# Altium schematic symbol library WE-CNSW.SchLib: 30 symbols
Pins are listed as number, name and electrical type; pins without a type are passive.

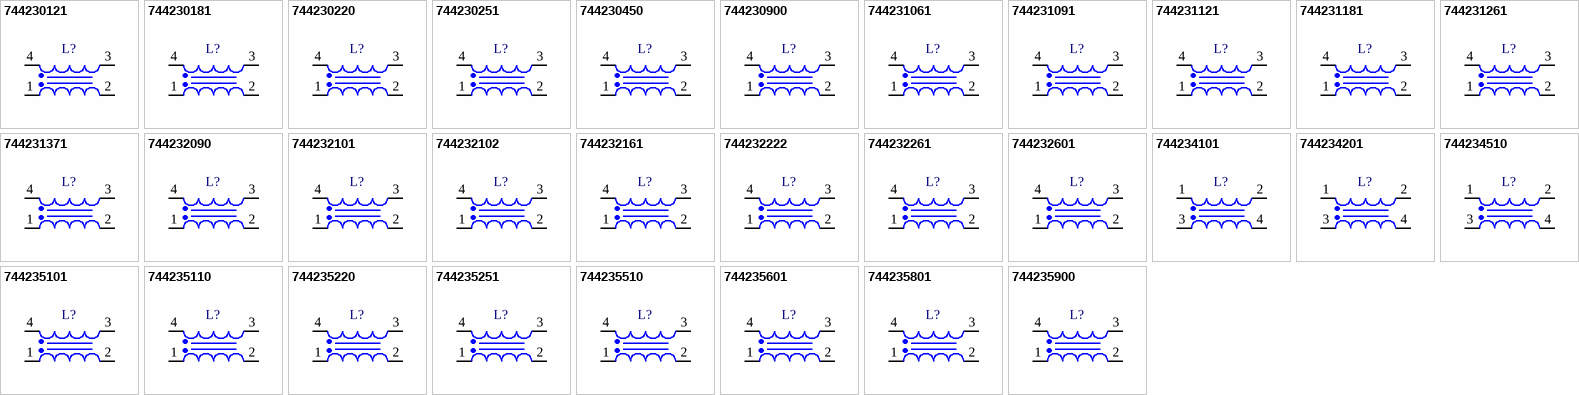
[diagram p0: symbols 744230121 to 744235900]

## 744230121
designator L?, comment 120ohm @100MHz  (value not drawn)
WE-CNSW SMT Common Mode Line Filter, SMT, size 0603, 120ohm @100MHz, 50V, 450mA; Manufacturer Part Number: 744230121; Manufacturer: Wurth Elektronik; Case/Size Code: 0603; DC Resistance Max: 0.175ohm; Inductance: 0.146uH; Insulation Test Voltage: 125VAC; Winding Style: bifilar; Category: Common Mode Chokes; Match Code: WE-CNSW; ComponentLink1Description: Website Link; ComponentLink1URL: https://www.we-online.com; ComponentLink2Description: Datasheet Link; ComponentLink2URL: https://www.we-online.com/components/products/datasheet/744230121; Mount: Surface Mount; Operating Temperature Min: -40degC; Operating Temperature Max: 125degC; Packaging: Tape and Reel; Length: 1.6mm; Width: 0.85mm; Height: 1.1mm; Impedance @100MHz: 120ohm; Rated Current: 450mA; Rated Voltage: 50V
footprint WE-CNSW_0603
simulation model 0603_744230121_120ohm
pins: 1, 2, 3, 4

## 744230181
designator L?, comment 180ohm @100MHz  (value not drawn)
WE-CNSW SMT Common Mode Line Filter, SMT, size 0603, 180ohm @100MHz, 50V, 400mA; Manufacturer Part Number: 744230181; Manufacturer: Wurth Elektronik; Case/Size Code: 0603; DC Resistance Max: 0.21ohm; Inductance: 0.22uH; Insulation Test Voltage: 125VAC; Winding Style: bifilar; Category: Common Mode Chokes; Match Code: WE-CNSW; ComponentLink1Description: Website Link; ComponentLink1URL: https://www.we-online.com; ComponentLink2Description: Datasheet Link; ComponentLink2URL: https://www.we-online.com/components/products/datasheet/744230181; Mount: Surface Mount; Operating Temperature Min: -40degC; Operating Temperature Max: 125degC; Packaging: Tape and Reel; Length: 1.6mm; Width: 0.85mm; Height: 1.1mm; Impedance @100MHz: 180ohm; Rated Current: 400mA; Rated Voltage: 50V
footprint WE-CNSW_0603
simulation model 0603_744230181_180ohm
pins: 1, 2, 3, 4

## 744230220
designator L?, comment 22ohm @100MHz  (value not drawn)
WE-CNSW SMT Common Mode Line Filter, SMT, size 0603, 22ohm @100MHz, 50V, 800mA; Manufacturer Part Number: 744230220; Manufacturer: Wurth Elektronik; Case/Size Code: 0603; DC Resistance Max: 0.08ohm; Inductance: 0.027uH; Insulation Test Voltage: 125VAC; Winding Style: bifilar; Category: Common Mode Chokes; Match Code: WE-CNSW; ComponentLink1Description: Website Link; ComponentLink1URL: https://www.we-online.com; ComponentLink2Description: Datasheet Link; ComponentLink2URL: https://www.we-online.com/components/products/datasheet/744230220; Mount: Surface Mount; Operating Temperature Min: -40degC; Operating Temperature Max: 125degC; Packaging: Tape and Reel; Length: 1.6mm; Width: 0.85mm; Height: 1.1mm; Impedance @100MHz: 22ohm; Rated Current: 800mA; Rated Voltage: 50V
footprint WE-CNSW_0603
simulation model 0603_744230220_22ohm
pins: 1, 2, 3, 4

## 744230251
designator L?, comment 250ohm @100MHz  (value not drawn)
WE-CNSW SMT Common Mode Line Filter, SMT, size 0603, 250ohm @100MHz, 50V, 350mA; Manufacturer Part Number: 744230251; Manufacturer: Wurth Elektronik; Case/Size Code: 0603; DC Resistance Max: 0.28ohm; Inductance: 0.279uH; Insulation Test Voltage: 125VAC; Winding Style: bifilar; Category: Common Mode Chokes; Match Code: WE-CNSW; ComponentLink1Description: Website Link; ComponentLink1URL: https://www.we-online.com; ComponentLink2Description: Datasheet Link; ComponentLink2URL: https://www.we-online.com/components/products/datasheet/744230251; Mount: Surface Mount; Operating Temperature Min: -40degC; Operating Temperature Max: 125degC; Packaging: Tape and Reel; Length: 1.6mm; Width: 0.85mm; Height: 1.1mm; Impedance @100MHz: 250ohm; Rated Current: 350mA; Rated Voltage: 50V
footprint WE-CNSW_0603
simulation model 0603_744230251_250ohm
pins: 1, 2, 3, 4

## 744230450
designator L?, comment 45ohm @100MHz  (value not drawn)
WE-CNSW SMT Common Mode Line Filter, SMT, size 0603, 45ohm @100MHz, 50V, 650mA; Manufacturer Part Number: 744230450; Manufacturer: Wurth Elektronik; Case/Size Code: 0603; DC Resistance Max: 0.11ohm; Inductance: 0.056uH; Insulation Test Voltage: 125VAC; Winding Style: bifilar; Category: Common Mode Chokes; Match Code: WE-CNSW; ComponentLink1Description: Website Link; ComponentLink1URL: https://www.we-online.com; ComponentLink2Description: Datasheet Link; ComponentLink2URL: https://www.we-online.com/components/products/datasheet/744230450; Mount: Surface Mount; Operating Temperature Min: -40degC; Operating Temperature Max: 125degC; Packaging: Tape and Reel; Length: 1.6mm; Width: 0.85mm; Height: 1.1mm; Impedance @100MHz: 45ohm; Rated Current: 650mA; Rated Voltage: 50V
footprint WE-CNSW_0603
simulation model 0603_744230450_45ohm
pins: 1, 2, 3, 4

## 744230900
designator L?, comment 90ohm @100MHz  (value not drawn)
WE-CNSW SMT Common Mode Line Filter, SMT, size 0603, 90ohm @100MHz, 50V, 550mA; Manufacturer Part Number: 744230900; Manufacturer: Wurth Elektronik; Case/Size Code: 0603; DC Resistance Max: 0.145ohm; Inductance: 0.134uH; Insulation Test Voltage: 125VAC; Winding Style: bifilar; Category: Common Mode Chokes; Match Code: WE-CNSW; ComponentLink1Description: Website Link; ComponentLink1URL: https://www.we-online.com; ComponentLink2Description: Datasheet Link; ComponentLink2URL: https://www.we-online.com/components/products/datasheet/744230900; Mount: Surface Mount; Operating Temperature Min: -40degC; Operating Temperature Max: 125degC; Packaging: Tape and Reel; Length: 1.6mm; Width: 0.85mm; Height: 1.1mm; Impedance @100MHz: 90ohm; Rated Current: 550mA; Rated Voltage: 50V
footprint WE-CNSW_0603
simulation model 0603_744230900_90ohm
pins: 1, 2, 3, 4

## 744231061
designator L?, comment 67ohm @100MHz  (value not drawn)
WE-CNSW SMT Common Mode Line Filter, SMT, size 0805, 67ohm @100MHz, 50V, 400mA; Manufacturer Part Number: 744231061; Manufacturer: Wurth Elektronik; Case/Size Code: 0805; DC Resistance Max: 0.25ohm; Inductance: 0.088uH; Insulation Test Voltage: 125VAC; Winding Style: bifilar; Category: Common Mode Chokes; Match Code: WE-CNSW; ComponentLink1Description: Website Link; ComponentLink1URL: https://www.we-online.com; ComponentLink2Description: Datasheet Link; ComponentLink2URL: https://www.we-online.com/components/products/datasheet/744231061; Mount: Surface Mount; Operating Temperature Min: -40degC; Operating Temperature Max: 125degC; Packaging: Tape and Reel; Length: 2mm; Width: 1.2mm; Height: 1.2mm; Impedance @100MHz: 67ohm; Rated Current: 400mA; Rated Voltage: 50V
footprint WE-CNSW_0805
simulation model 0805_744231061_67ohm
pins: 1, 2, 3, 4

## 744231091
designator L?, comment 90ohm @100MHz  (value not drawn)
WE-CNSW SMT Common Mode Line Filter, SMT, size 0805, 90ohm @100MHz, 50V, 370mA; Manufacturer Part Number: 744231091; Manufacturer: Wurth Elektronik; Case/Size Code: 0805; DC Resistance Max: 0.3ohm; Inductance: 0.131uH; Insulation Test Voltage: 125VAC; Winding Style: bifilar; Category: Common Mode Chokes; Match Code: WE-CNSW; ComponentLink1Description: Website Link; ComponentLink1URL: https://www.we-online.com; ComponentLink2Description: Datasheet Link; ComponentLink2URL: https://www.we-online.com/components/products/datasheet/744231091; Mount: Surface Mount; Operating Temperature Min: -40degC; Operating Temperature Max: 125degC; Packaging: Tape and Reel; Length: 2mm; Width: 1.2mm; Height: 1.2mm; Impedance @100MHz: 90ohm; Rated Current: 370mA; Rated Voltage: 50V
footprint WE-CNSW_0805
simulation model 0805_744231091_90ohm
pins: 1, 2, 3, 4

## 744231121
designator L?, comment 120ohm @100MHz  (value not drawn)
WE-CNSW SMT Common Mode Line Filter, SMT, size 0805, 120ohm @100MHz, 50V, 370mA; Manufacturer Part Number: 744231121; Manufacturer: Wurth Elektronik; Case/Size Code: 0805; DC Resistance Max: 0.3ohm; Inductance: 0.166uH; Insulation Test Voltage: 125VAC; Winding Style: bifilar; Category: Common Mode Chokes; Match Code: WE-CNSW; ComponentLink1Description: Website Link; ComponentLink1URL: https://www.we-online.com; ComponentLink2Description: Datasheet Link; ComponentLink2URL: https://www.we-online.com/components/products/datasheet/744231121; Mount: Surface Mount; Operating Temperature Min: -40degC; Operating Temperature Max: 125degC; Packaging: Tape and Reel; Length: 2mm; Width: 1.2mm; Height: 1.2mm; Impedance @100MHz: 120ohm; Rated Current: 370mA; Rated Voltage: 50V
footprint WE-CNSW_0805
simulation model 0805_744231121_120ohm
pins: 1, 2, 3, 4

## 744231181
designator L?, comment 180ohm @100MHz  (value not drawn)
WE-CNSW SMT Common Mode Line Filter, SMT, size 0805, 180ohm @100MHz, 50V, 330mA; Manufacturer Part Number: 744231181; Manufacturer: Wurth Elektronik; Case/Size Code: 0805; DC Resistance Max: 0.35ohm; Inductance: 0.252uH; Insulation Test Voltage: 125VAC; Winding Style: bifilar; Category: Common Mode Chokes; Match Code: WE-CNSW; ComponentLink1Description: Website Link; ComponentLink1URL: https://www.we-online.com; ComponentLink2Description: Datasheet Link; ComponentLink2URL: https://www.we-online.com/components/products/datasheet/744231181; Mount: Surface Mount; Operating Temperature Min: -40degC; Operating Temperature Max: 125degC; Packaging: Tape and Reel; Length: 2mm; Width: 1.2mm; Height: 1.2mm; Impedance @100MHz: 180ohm; Rated Current: 330mA; Rated Voltage: 50V
footprint WE-CNSW_0805
simulation model 0805_744231181_180ohm
pins: 1, 2, 3, 4

## 744231261
designator L?, comment 260ohm @100MHz  (value not drawn)
WE-CNSW SMT Common Mode Line Filter, SMT, size 0805, 260ohm @100MHz, 50V, 300mA; Manufacturer Part Number: 744231261; Manufacturer: Wurth Elektronik; Case/Size Code: 0805; DC Resistance Max: 0.4ohm; Inductance: 0.367uH; Insulation Test Voltage: 125VAC; Winding Style: bifilar; Category: Common Mode Chokes; Match Code: WE-CNSW; ComponentLink1Description: Website Link; ComponentLink1URL: https://www.we-online.com; ComponentLink2Description: Datasheet Link; ComponentLink2URL: https://www.we-online.com/components/products/datasheet/744231261; Mount: Surface Mount; Operating Temperature Min: -40degC; Operating Temperature Max: 125degC; Packaging: Tape and Reel; Length: 2mm; Width: 1.2mm; Height: 1.2mm; Impedance @100MHz: 260ohm; Rated Current: 300mA; Rated Voltage: 50V
footprint WE-CNSW_0805
simulation model 0805_744231261_260ohm
pins: 1, 2, 3, 4

## 744231371
designator L?, comment 370ohm @100MHz  (value not drawn)
WE-CNSW SMT Common Mode Line Filter, SMT, size 0805, 370ohm @100MHz, 50V, 280mA; Manufacturer Part Number: 744231371; Manufacturer: Wurth Elektronik; Case/Size Code: 0805; DC Resistance Max: 0.45ohm; Inductance: 0.478uH; Insulation Test Voltage: 125VAC; Winding Style: bifilar; Category: Common Mode Chokes; Match Code: WE-CNSW; ComponentLink1Description: Website Link; ComponentLink1URL: https://www.we-online.com; ComponentLink2Description: Datasheet Link; ComponentLink2URL: https://www.we-online.com/components/products/datasheet/744231371; Mount: Surface Mount; Operating Temperature Min: -40degC; Operating Temperature Max: 125degC; Packaging: Tape and Reel; Length: 2mm; Width: 1.2mm; Height: 1.2mm; Impedance @100MHz: 370ohm; Rated Current: 280mA; Rated Voltage: 50V
footprint WE-CNSW_0805
simulation model 0805_744231371_370ohm
pins: 1, 2, 3, 4

## 744232090
designator L?, comment 90ohm @100MHz  (value not drawn)
WE-CNSW SMT Common Mode Line Filter, SMT, size 1206, 90ohm @100MHz, 50V, 370mA; Manufacturer Part Number: 744232090; Manufacturer: Wurth Elektronik; Case/Size Code: 1206; DC Resistance Max: 0.3ohm; Inductance: 0.111uH; Insulation Test Voltage: 125VAC; Winding Style: bifilar; Category: Common Mode Chokes; Match Code: WE-CNSW; ComponentLink1Description: Website Link; ComponentLink1URL: https://www.we-online.com; ComponentLink2Description: Datasheet Link; ComponentLink2URL: https://www.we-online.com/components/products/datasheet/744232090; Mount: Surface Mount; Operating Temperature Min: -40degC; Operating Temperature Max: 125degC; Packaging: Tape and Reel; Length: 3.2mm; Width: 1.6mm; Height: 1.8mm; Impedance @100MHz: 90ohm; Rated Current: 370mA; Rated Voltage: 50V
footprint WE-CNSW_1206
simulation model 1206_744232090_90ohm
pins: 1, 2, 3, 4

## 744232101
designator L?, comment 6000ohm @10MHz  (value not drawn)
WE-CNSW SMT Common Mode Line Filter, SMT, size 1206, 6000ohm @10MHz, 50V, 90mA; Manufacturer Part Number: 744232101; Manufacturer: Wurth Elektronik; Case/Size Code: 1206; DC Resistance Max: 5.5ohm; Inductance: 105.3uH; Insulation Test Voltage: 125VAC; Winding Style: bifilar; Category: Common Mode Chokes; Match Code: WE-CNSW; ComponentLink1Description: Website Link; ComponentLink1URL: https://www.we-online.com; ComponentLink2Description: Datasheet Link; ComponentLink2URL: https://www.we-online.com/components/products/datasheet/744232101; Mount: Surface Mount; Operating Temperature Min: -40degC; Operating Temperature Max: 125degC; Packaging: Tape and Reel; Length: 3.2mm; Width: 1.6mm; Height: 1.8mm; Impedance @10MHz: 6000ohm; Rated Current: 90mA; Rated Voltage: 50V
footprint WE-CNSW_1206
simulation model 1206_744232101_6000ohm
pins: 1, 2, 3, 4

## 744232102
designator L?, comment 1000ohm @100MHz  (value not drawn)
WE-CNSW SMT Common Mode Line Filter, SMT, size 1206, 1000ohm @100MHz, 50V, 230mA; Manufacturer Part Number: 744232102; Manufacturer: Wurth Elektronik; Case/Size Code: 1206; DC Resistance Max: 1ohm; Inductance: 1.263uH; Insulation Test Voltage: 125VAC; Winding Style: bifilar; Category: Common Mode Chokes; Match Code: WE-CNSW; ComponentLink1Description: Website Link; ComponentLink1URL: https://www.we-online.com; ComponentLink2Description: Datasheet Link; ComponentLink2URL: https://www.we-online.com/components/products/datasheet/744232102; Mount: Surface Mount; Operating Temperature Min: -40degC; Operating Temperature Max: 125degC; Packaging: Tape and Reel; Length: 3.2mm; Width: 1.6mm; Height: 1.8mm; Impedance @100MHz: 1000ohm; Rated Current: 230mA; Rated Voltage: 50V
footprint WE-CNSW_1206
simulation model 1206_744232102_1000ohm
pins: 1, 2, 3, 4

## 744232161
designator L?, comment 160ohm @100MHz  (value not drawn)
WE-CNSW SMT Common Mode Line Filter, SMT, size 1206, 160ohm @100MHz, 50V, 340mA; Manufacturer Part Number: 744232161; Manufacturer: Wurth Elektronik; Case/Size Code: 1206; DC Resistance Max: 0.4ohm; Inductance: 0.196uH; Insulation Test Voltage: 125VAC; Winding Style: bifilar; Category: Common Mode Chokes; Match Code: WE-CNSW; ComponentLink1Description: Website Link; ComponentLink1URL: https://www.we-online.com; ComponentLink2Description: Datasheet Link; ComponentLink2URL: https://www.we-online.com/components/products/datasheet/744232161; Mount: Surface Mount; Operating Temperature Min: -40degC; Operating Temperature Max: 125degC; Packaging: Tape and Reel; Length: 3.2mm; Width: 1.6mm; Height: 1.8mm; Impedance @100MHz: 160ohm; Rated Current: 340mA; Rated Voltage: 50V
footprint WE-CNSW_1206
simulation model 1206_744232161_160ohm
pins: 1, 2, 3, 4

## 744232222
designator L?, comment 2200ohm @100MHz  (value not drawn)
WE-CNSW SMT Common Mode Line Filter, SMT, size 1206, 2200ohm @100MHz, 50V, 200mA; Manufacturer Part Number: 744232222; Manufacturer: Wurth Elektronik; Case/Size Code: 1206; DC Resistance Max: 1.2ohm; Inductance: 2.578uH; Insulation Test Voltage: 125VAC; Winding Style: bifilar; Category: Common Mode Chokes; Match Code: WE-CNSW; ComponentLink1Description: Website Link; ComponentLink1URL: https://www.we-online.com; ComponentLink2Description: Datasheet Link; ComponentLink2URL: https://www.we-online.com/components/products/datasheet/744232222; Mount: Surface Mount; Operating Temperature Min: -40degC; Operating Temperature Max: 125degC; Packaging: Tape and Reel; Length: 3.2mm; Width: 1.6mm; Height: 1.8mm; Impedance @100MHz: 2200ohm; Rated Current: 200mA; Rated Voltage: 50V
footprint WE-CNSW_1206
simulation model 1206_744232222_2200ohm
pins: 1, 2, 3, 4

## 744232261
designator L?, comment 260ohm @100MHz  (value not drawn)
WE-CNSW SMT Common Mode Line Filter, SMT, size 1206, 260ohm @100MHz, 50V, 310mA; Manufacturer Part Number: 744232261; Manufacturer: Wurth Elektronik; Case/Size Code: 1206; DC Resistance Max: 0.5ohm; Inductance: 0.304uH; Insulation Test Voltage: 125VAC; Winding Style: bifilar; Category: Common Mode Chokes; Match Code: WE-CNSW; ComponentLink1Description: Website Link; ComponentLink1URL: https://www.we-online.com; ComponentLink2Description: Datasheet Link; ComponentLink2URL: https://www.we-online.com/components/products/datasheet/744232261; Mount: Surface Mount; Operating Temperature Min: -40degC; Operating Temperature Max: 125degC; Packaging: Tape and Reel; Length: 3.2mm; Width: 1.6mm; Height: 1.8mm; Impedance @100MHz: 260ohm; Rated Current: 310mA; Rated Voltage: 50V
footprint WE-CNSW_1206
simulation model 1206_744232261_260ohm
pins: 1, 2, 3, 4

## 744232601
designator L?, comment 600ohm @100MHz  (value not drawn)
WE-CNSW SMT Common Mode Line Filter, SMT, size 1206, 600ohm @100MHz, 50V, 260mA; Manufacturer Part Number: 744232601; Manufacturer: Wurth Elektronik; Case/Size Code: 1206; DC Resistance Max: 0.8ohm; Inductance: 0.3621uH; Insulation Test Voltage: 125VAC; Winding Style: bifilar; Category: Common Mode Chokes; Match Code: WE-CNSW; ComponentLink1Description: Website Link; ComponentLink1URL: https://www.we-online.com; ComponentLink2Description: Datasheet Link; ComponentLink2URL: https://www.we-online.com/components/products/datasheet/744232601; Mount: Surface Mount; Operating Temperature Min: -40degC; Operating Temperature Max: 125degC; Packaging: Tape and Reel; Length: 3.2mm; Width: 1.6mm; Height: 1.8mm; Impedance @100MHz: 600ohm; Rated Current: 260mA; Rated Voltage: 50V
footprint WE-CNSW_1206
simulation model 1206_744232601_600ohm
pins: 1, 2, 3, 4

## 744234101
designator L?, comment 5500ohm @10MHz  (value not drawn)
WE-CNSW SMT Common Mode Line Filter, SMT, size 1210, 5500ohm @10MHz, 50V, 200mA; Manufacturer Part Number: 744234101; Manufacturer: Wurth Elektronik; Case/Size Code: 1210; DC Resistance Max: 3ohm; Inductance: 100uH; Insulation Test Voltage: 125VAC; Winding Style: bifilar; Category: Common Mode Chokes; Match Code: WE-CNSW; ComponentLink1Description: Website Link; ComponentLink1URL: https://www.we-online.com; ComponentLink2Description: Datasheet Link; ComponentLink2URL: https://www.we-online.com/components/products/datasheet/744234101; Mount: Surface Mount; Operating Temperature Min: -40degC; Operating Temperature Max: 125degC; Packaging: Tape and Reel; Length: 3.2mm; Width: 2.5mm; Height: 2.4mm; Impedance @10MHz: 5500ohm; Rated Current: 200mA; Rated Voltage: 50V
footprint WE-CNSW_1210
simulation model 1210_744234101_5500ohm
pins: 1, 2, 3, 4

## 744234201
designator L?, comment 10000ohm @10MHz  (value not drawn)
WE-CNSW SMT Common Mode Line Filter, SMT, size 1210, 10000ohm @10MHz, 50V, 100mA; Manufacturer Part Number: 744234201; Manufacturer: Wurth Elektronik; Case/Size Code: 1210; DC Resistance Max: 5.5ohm; Inductance: 200uH; Insulation Test Voltage: 125VAC; Category: Common Mode Chokes; Match Code: WE-CNSW; ComponentLink1Description: Website Link; ComponentLink1URL: https://www.we-online.com; ComponentLink2Description: Datasheet Link; ComponentLink2URL: https://www.we-online.com/components/products/datasheet/744234201; Mount: Surface Mount; Operating Temperature Min: -40degC; Operating Temperature Max: 125degC; Packaging: Tape and Reel; Length: 3.2mm; Width: 2.5mm; Height: 2.4mm; Impedance @10MHz: 10000ohm; Impedance @100MHz: 10000ohm; Rated Current: 100mA; Rated Voltage: 50V
footprint WE-CNSW_1210
simulation model 1210_744234201_10000ohm
pins: 1, 2, 3, 4

## 744234510
designator L?, comment 2800ohm @10MHz  (value not drawn)
WE-CNSW SMT Common Mode Line Filter, SMT, size 1210, 2800ohm @10MHz, 50V, 400mA; Manufacturer Part Number: 744234510; Manufacturer: Wurth Elektronik; Case/Size Code: 1210; DC Resistance Max: 1.1ohm; Inductance: 51uH; Insulation Test Voltage: 125VAC; Winding Style: bifilar; Category: Common Mode Chokes; Match Code: WE-CNSW; ComponentLink1Description: Website Link; ComponentLink1URL: https://www.we-online.com; ComponentLink2Description: Datasheet Link; ComponentLink2URL: https://www.we-online.com/components/products/datasheet/744234510; Mount: Surface Mount; Operating Temperature Min: -40degC; Operating Temperature Max: 125degC; Packaging: Tape and Reel; Length: 3.2mm; Width: 2.5mm; Height: 2.4mm; Impedance @10MHz: 2800ohm; Rated Current: 400mA; Rated Voltage: 50V
footprint WE-CNSW_1210
simulation model 1210_744234510_2800ohm
pins: 1, 2, 3, 4

## 744235101
designator L?, comment 5000ohm @10MHz  (value not drawn)
WE-CNSW SMT Common Mode Line Filter, SMT, size 1812, 5000ohm @10MHz, 60V, 150mA; Manufacturer Part Number: 744235101; Manufacturer: Wurth Elektronik; Case/Size Code: 1812; DC Resistance Max: 2ohm; Inductance: 100uH; Insulation Test Voltage: 125VAC; Winding Style: bifilar; Category: Common Mode Chokes; Match Code: WE-CNSW; ComponentLink1Description: Website Link; ComponentLink1URL: https://www.we-online.com; ComponentLink2Description: Datasheet Link; ComponentLink2URL: https://www.we-online.com/components/products/datasheet/744235101; Mount: Surface Mount; Operating Temperature Min: -40degC; Operating Temperature Max: 125degC; Packaging: Tape and Reel; Length: 4.5mm; Width: 3.2mm; Height: 2.8mm; Impedance @10MHz: 5000ohm; Rated Current: 150mA; Rated Voltage: 60V
footprint WE-CNSW_1812
simulation model 1812_744235101_8000ohm
pins: 1, 2, 3, 4

## 744235110
designator L?, comment 5000ohm @100MHz  (value not drawn)
WE-CNSW SMT Common Mode Line Filter, SMT, size 1812, 5000ohm @100MHz, 60V, 450mA; Manufacturer Part Number: 744235110; Manufacturer: Wurth Elektronik; Case/Size Code: 1812; DC Resistance Max: 0.8ohm; Inductance: 11uH; Insulation Test Voltage: 125VAC; Winding Style: bifilar; Category: Common Mode Chokes; Match Code: WE-CNSW; ComponentLink1Description: Website Link; ComponentLink1URL: https://www.we-online.com; ComponentLink2Description: Datasheet Link; ComponentLink2URL: https://www.we-online.com/components/products/datasheet/744235110; Mount: Surface Mount; Operating Temperature Min: -40degC; Operating Temperature Max: 125degC; Packaging: Tape and Reel; Length: 4.5mm; Width: 3.2mm; Height: 2.8mm; Impedance @100MHz: 5000ohm; Rated Current: 450mA; Rated Voltage: 60V
footprint WE-CNSW_1812
simulation model 1812_744235110_5000ohm
pins: 1, 2, 3, 4

## 744235220
designator L?, comment 8000ohm @100MHz  (value not drawn)
WE-CNSW SMT Common Mode Line Filter, SMT, size 1812, 8000ohm @100MHz, 60V, 250mA; Manufacturer Part Number: 744235220; Manufacturer: Wurth Elektronik; Case/Size Code: 1812; DC Resistance Max: 2.65ohm; Inductance: 22uH; Insulation Test Voltage: 125VAC; Winding Style: bifilar; Category: Common Mode Chokes; Match Code: WE-CNSW; ComponentLink1Description: Website Link; ComponentLink1URL: https://www.we-online.com; ComponentLink2Description: Datasheet Link; ComponentLink2URL: https://www.we-online.com/components/products/datasheet/744235220; Mount: Surface Mount; Operating Temperature Min: -40degC; Operating Temperature Max: 125degC; Packaging: Tape and Reel; Length: 4.5mm; Width: 3.2mm; Height: 2.8mm; Impedance @100MHz: 8000ohm; Rated Current: 250mA; Rated Voltage: 60V
footprint WE-CNSW_1812
simulation model 1812_744235220_8000ohm
pins: 1, 2, 3, 4

## 744235251
designator L?, comment 10000ohm @10MHz  (value not drawn)
WE-CNSW SMT Common Mode Line Filter, SMT, size 1812, 10000ohm @10MHz, 60V, 200mA; Manufacturer Part Number: 744235251; Manufacturer: Wurth Elektronik; Case/Size Code: 1812; DC Resistance Max: 1.6ohm; Inductance: 250uH; Insulation Test Voltage: 125VAC; Winding Style: bifilar; Category: Common Mode Chokes; Match Code: WE-CNSW; ComponentLink1Description: Website Link; ComponentLink1URL: https://www.we-online.com; ComponentLink2Description: Datasheet Link; ComponentLink2URL: https://www.we-online.com/components/products/datasheet/744235251; Mount: Surface Mount; Operating Temperature Min: -40degC; Operating Temperature Max: 125degC; Packaging: Tape and Reel; Length: 4.5mm; Width: 3.2mm; Height: 2.8mm; Impedance @10MHz: 10000ohm; Rated Current: 200mA; Rated Voltage: 60V
footprint WE-CNSW_1812
simulation model 1812_744235251_10000ohm
pins: 1, 2, 3, 4

## 744235510
designator L?, comment 3000ohm @10MHz  (value not drawn)
WE-CNSW SMT Common Mode Line Filter, SMT, size 1812, 3000ohm @10MHz, 60V, 200mA; Manufacturer Part Number: 744235510; Manufacturer: Wurth Elektronik; Case/Size Code: 1812; DC Resistance Max: 1ohm; Inductance: 51uH; Insulation Test Voltage: 125VAC; Winding Style: bifilar; Category: Common Mode Chokes; Match Code: WE-CNSW; ComponentLink1Description: Website Link; ComponentLink1URL: https://www.we-online.com; ComponentLink2Description: Datasheet Link; ComponentLink2URL: https://www.we-online.com/components/products/datasheet/744235510; Mount: Surface Mount; Operating Temperature Min: -40degC; Operating Temperature Max: 125degC; Packaging: Tape and Reel; Length: 4.5mm; Width: 3.2mm; Height: 2.8mm; Impedance @10MHz: 3000ohm; Rated Current: 200mA; Rated Voltage: 60V
footprint WE-CNSW_1812
simulation model 1812_744235510_3000ohm
pins: 1, 2, 3, 4

## 744235601
designator L?, comment 600ohm @100MHz  (value not drawn)
WE-CNSW SMT Common Mode Line Filter, SMT, size 1812, 600ohm @100MHz, 60V, 1200mA; Manufacturer Part Number: 744235601; Manufacturer: Wurth Elektronik; Case/Size Code: 1812; DC Resistance Max: 0.1ohm; Inductance: 1uH; Insulation Test Voltage: 125VAC; Winding Style: bifilar; Category: Common Mode Chokes; Match Code: WE-CNSW; ComponentLink1Description: Website Link; ComponentLink1URL: https://www.we-online.com; ComponentLink2Description: Datasheet Link; ComponentLink2URL: https://www.we-online.com/components/products/datasheet/744235601; Mount: Surface Mount; Operating Temperature Min: -40degC; Operating Temperature Max: 125degC; Packaging: Tape and Reel; Length: 4.5mm; Width: 3.2mm; Height: 2.8mm; Impedance @100MHz: 600ohm; Rated Current: 1200mA; Rated Voltage: 60V
footprint WE-CNSW_1812
simulation model 1812_744235601_600ohm
pins: 1, 2, 3, 4

## 744235801
designator L?, comment 800ohm @100MHz  (value not drawn)
WE-CNSW SMT Common Mode Line Filter, SMT, size 1812, 800ohm @100MHz, 60V, 1000mA; Manufacturer Part Number: 744235801; Manufacturer: Wurth Elektronik; Case/Size Code: 1812; DC Resistance Max: 0.12ohm; Inductance: 1.3uH; Insulation Test Voltage: 125VAC; Winding Style: bifilar; Category: Common Mode Chokes; Match Code: WE-CNSW; ComponentLink1Description: Website Link; ComponentLink1URL: https://www.we-online.com; ComponentLink2Description: Datasheet Link; ComponentLink2URL: https://www.we-online.com/components/products/datasheet/744235801; Mount: Surface Mount; Operating Temperature Min: -40degC; Operating Temperature Max: 125degC; Packaging: Tape and Reel; Length: 4.5mm; Width: 3.2mm; Height: 2.8mm; Impedance @100MHz: 800ohm; Rated Current: 1000mA; Rated Voltage: 60V
footprint WE-CNSW_1812
simulation model 1812_744235801_800ohm
pins: 1, 2, 3, 4

## 744235900
designator L?, comment 90ohm @100MHz  (value not drawn)
WE-CNSW SMT Common Mode Line Filter, SMT, size 1812, 90ohm @100MHz, 60V, 2000mA; Manufacturer Part Number: 744235900; Manufacturer: Wurth Elektronik; Case/Size Code: 1812; DC Resistance Max: 0.05ohm; Inductance: 0.3uH; Insulation Test Voltage: 125VAC; Winding Style: bifilar; Category: Common Mode Chokes; Match Code: WE-CNSW; ComponentLink1Description: Website Link; ComponentLink1URL: https://www.we-online.com; ComponentLink2Description: Datasheet Link; ComponentLink2URL: https://www.we-online.com/components/products/datasheet/744235900; Mount: Surface Mount; Operating Temperature Min: -40degC; Operating Temperature Max: 125degC; Packaging: Tape and Reel; Length: 4.5mm; Width: 3.2mm; Height: 2.8mm; Impedance @100MHz: 90ohm; Rated Current: 2000mA; Rated Voltage: 60V
footprint WE-CNSW_1812
simulation model 1812_744235900_90ohm
pins: 1, 2, 3, 4